# Altium footprint library CN_JACK_PHONO_3.5MM.PcbLib: 1 footprints
Each footprint in its own frame and in the unit in brackets; x right, y up, seen from the top. Pads: shape width x height; smd on the part's side, far side on the other; paste and mask are expansions set on the pad; w line width, h text height; cw(c..) or ccw(c..) is an arc to the next point about the centre after c.
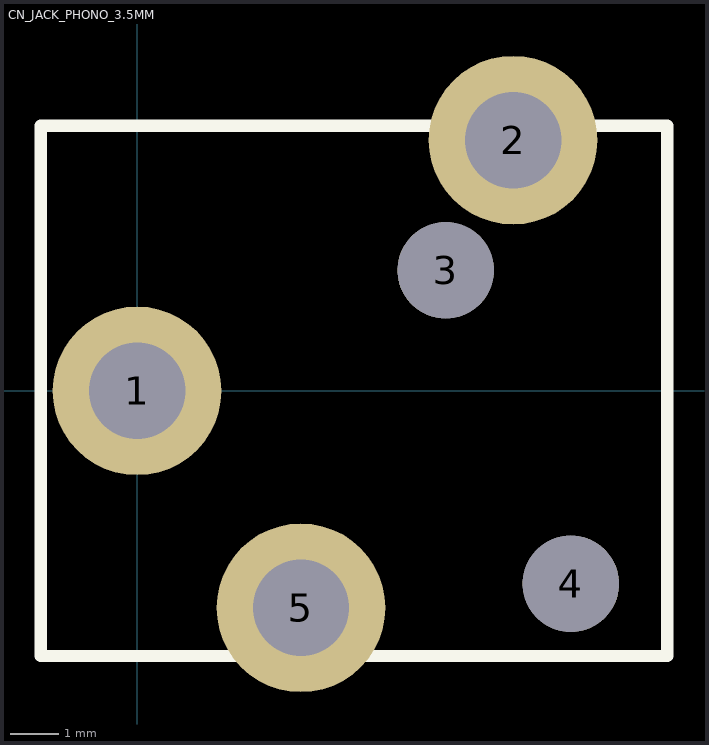
[diagram p0: the footprint, top view; thin cyan lines are the x and y axes]

## CN_JACK_PHONO_3.5MM [mm]
pads (5):
  round 3.5 hole 2: 1(0,0) 2(7.8,5.2) 5(3.4,-4.5)
  round 2 hole 2: 3(6.4,2.5) 4(9,-4)
Top Overlay:
  lines w0.254: -2,-5.5 -2,0 -2,5.5 11,5.5 11,-5.5 -2,-5.5
3D body: height 6, standoff 0, extent -2.127,-5.627 11.127,5.627